# Altium schematic symbol library TPS61252.Schlib: 1 symbol
Pins are listed as number, name and electrical type; pins without a type are passive.

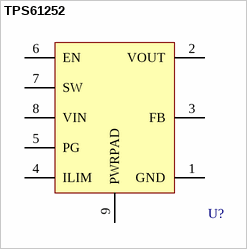
[diagram p0: symbol TPS61252]

## TPS61252
designator U?
pins: 1 GND, 2 VOUT, 3 FB, 4 ILIM, 5 PG, 6 EN, 7 SW, 8 VIN, 9 PWRPAD
1 alternate drawing of the same symbol